# Altium footprint library OV5640_PCB.PcbLib: 8 footprints
Each footprint in its own frame and in the unit in brackets; x right, y up, seen from the top. Pads: shape width x height; smd on the part's side, far side on the other; paste and mask are expansions set on the pad; w line width, h text height; cw(c..) or ccw(c..) is an arc to the next point about the centre after c.
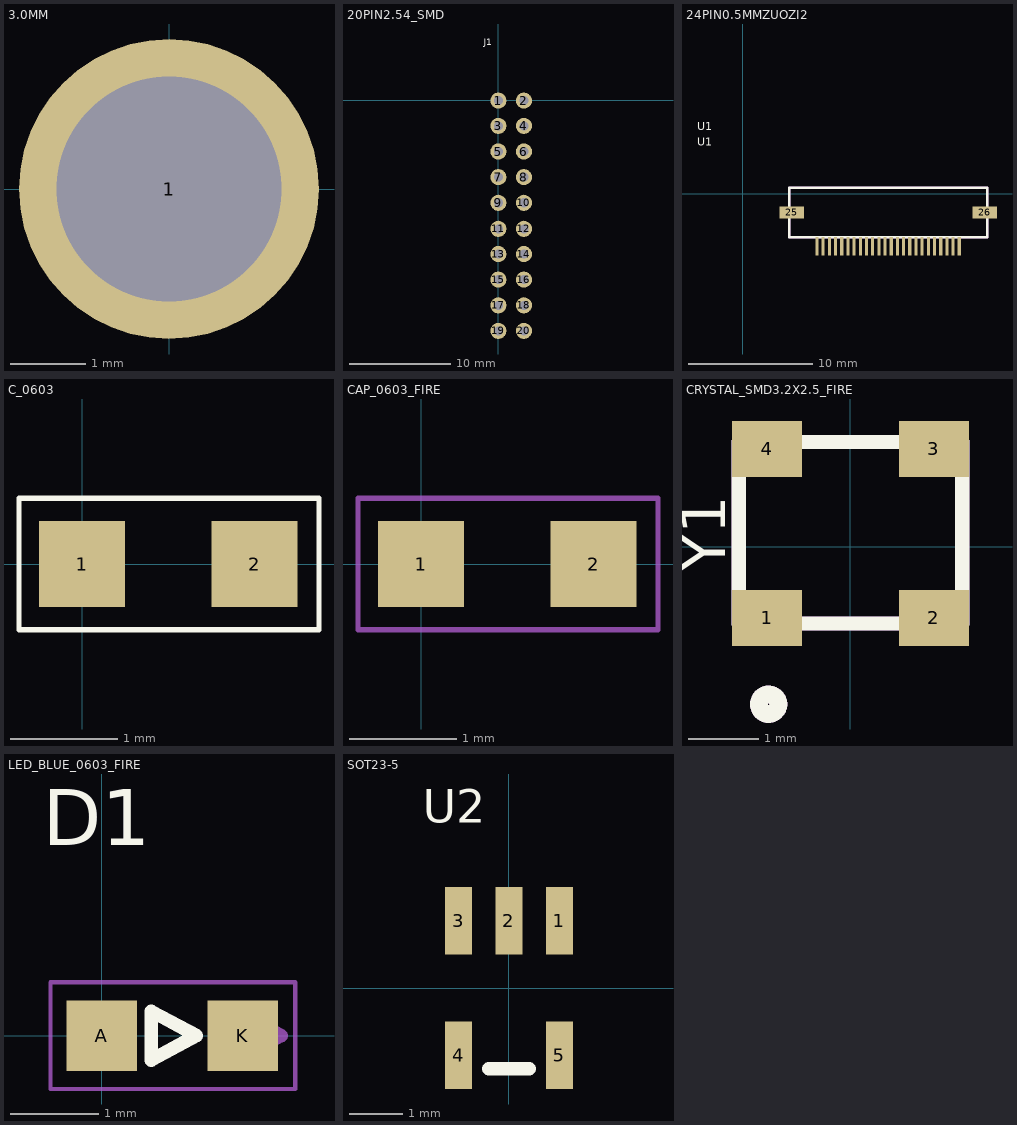
[diagram p0: the footprints below, top view; thin cyan lines are the x and y axes]

## 3.0MM [mm]
pads (1):
  round 4 hole 3: 1(0,0)
Bottom Overlay:
  text "J4" at 0,-0.5 h0.64

## 20PIN2.54_SMD [mm]
pads (20):
  round 1.6 hole 0.9: 1(0,-0.04) 2(2.54,-0.04) 3(0,-2.54) 4(2.54,-2.54) 5(0,-5.08) 6(2.54,-5.08) 7(0,-7.62) 8(2.54,-7.62) 9(0,-10.16) 10(2.54,-10.16) 11(0,-12.74) 12(2.54,-12.74) 13(0,-15.24) 14(2.54,-15.24) 15(0,-17.78) 16(2.54,-17.78) 17(0,-20.32) 18(2.54,-20.32) 19(0,-22.86) 20(2.54,-22.86)
Top Overlay:
  text "J1" at -1.422,5.436 h0.64
Bottom Overlay:
  text "J1" at -1.422,4.166 h0.64

## 24PIN0.5MMZUOZI2 [mm]
pads (26):
  rect 0.25x1.5 smd: 1(6,-4.25) 2(6.5,-4.25) 3(7,-4.25) 4(7.5,-4.25) 5(8,-4.25) 6(8.5,-4.25) 7(9,-4.25) 8(9.5,-4.25) 9(10,-4.25) 10(10.5,-4.25) 11(11,-4.25) 12(11.5,-4.25) 13(12,-4.25) 14(12.5,-4.25) 15(13,-4.25) 16(13.5,-4.25) 17(14,-4.25) 18(14.5,-4.25) 19(15,-4.25) 20(15.5,-4.25) 21(16,-4.25) 22(16.5,-4.25) 23(17,-4.25) 24(17.5,-4.25)
  rect 2x1 smd: 25(3.95,-1.5) 26(19.55,-1.5)
Top Overlay:
  lines w0.2: 3.75,-3.5 3.75,0.5 19.75,0.5 19.75,-3.5 3.75,-3.5
  text "U1" at -3.7,5.156 h0.64
  text "U1" at -3.7,3.886 h0.64
Mechanical 1:
  lines w0.2: 3.75,-3.5 3.75,0.5 19.75,0.5 19.75,-3.5 3.75,-3.5

## C_0603 [mm]
pads (2):
  rect 0.8x0.8 smd: 1(0,0) 2(1.6,0)
Top Overlay:
  lines w0.051: -0.584,-0.61 2.197,-0.61 2.197,0.61 -0.584,0.61 -0.584,-0.61

## CAP_0603_FIRE [mm]
pads (2):
  rect 0.8x0.8 smd: 1(0,0) 2(1.6,0)
Mechanical 1:
  lines w0.051: -0.584,-0.61 2.197,-0.61 2.197,0.61 -0.584,0.61 -0.584,-0.61

## CRYSTAL_SMD3.2X2.5_FIRE [mm]
pads (4):
  rect 1x0.8 smd: 1(-1.194,-1.019) 2(1.194,-1.019) 3(1.194,1.4) 4(-1.194,1.4)
Top Overlay:
  circle w0.254: c-1.172,-2.257 r0.14
  lines w0.203: -1.6,-1.102 1.6,-1.102 1.6,1.498 -1.6,1.498 -1.6,-1.102
  text "Y1" at -1.794,-0.349 h0.64
Mechanical 1:
  circle w0.254: c-1.172,-2.257 r0.14
  lines w0.203: -1.6,-1.102 1.6,-1.102 1.6,1.498 -1.6,1.498 -1.6,-1.102

## LED_BLUE_0603_FIRE [mm]
pads (2):
  rect 0.8x0.8 smd: A(0,0) K(1.6,0)
Top Overlay:
  lines w0.152: 0.562,-0.277 1.076,0.001 0.562,0.277 0.562,-0.277
  text "D1" at -0.665,2.161 h0.64
Mechanical 1:
  lines w0.051: -0.579,-0.605 2.193,-0.605 2.193,0.607 -0.579,0.607 -0.579,-0.605
  lines w0.152: 1.521,-0.277 2.035,0.001 1.521,0.277 1.521,-0.277

## SOT23-5 [mil]
pads (5):
  rect 20x50 smd: 1(37.5,50) 2(0,50) 3(-37.5,50) 4(-37.5,-50) 5(37.5,-50)
Top Overlay:
  lines w10: -15,-60 15,-60
  text "U2" at -63.98,122.96 h25